# Altium footprint library SOD-80.PcbLib: 1 footprints
Each footprint in its own frame and in the unit in brackets; x right, y up, seen from the top. Pads: shape width x height; smd on the part's side, far side on the other; paste and mask are expansions set on the pad; w line width, h text height; cw(c..) or ccw(c..) is an arc to the next point about the centre after c.
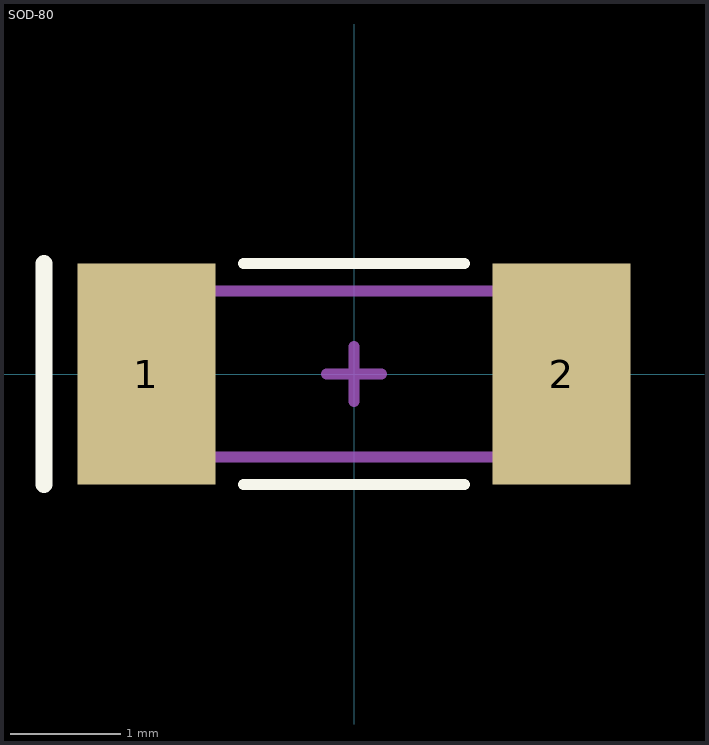
[diagram p0: the footprint, top view; thin cyan lines are the x and y axes]

## SOD-80 [mm]
pads (2):
  rect 1.25x2 smd mask+0: 1(-1.875,0) 2(1.875,0)
Top Overlay:
  lines w0.1: -1,-1 1,-1 ; -1,1 1,1
  lines w0.152: -2.8,-1 -2.8,1
Mechanical 13:
  lines w0.1: -1.75,-0.75 1.75,-0.75 1.75,0.75 0,0.75 -1.75,0.75 -1.75,-0.75
Mechanical 15 (Mech15):
  lines w0.1: -0.25,0 0,0 ; 0,-0.25 0,0 ; 0,0.25 0,0 ; 0.25,0 0,0
3D body "SOD-80.STEP": height 1.5, standoff 0, extent -1.75,-0.749 1.75,0.749